# Altium schematic symbol library C_TANT_C(6032).SchLib: 1 symbol
Pins are listed as number, name and electrical type; pins without a type are passive.

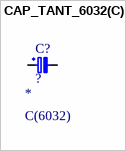
[diagram p0: symbol CAP_TANT_6032(C)]

## CAP_TANT_6032(C)
designator C?, comment ?  Package: C(6032)
CASE-C-6032 Tantalum Capacitors ROHS; Manufacturer: *; Manufacturer Part: *; Value: ?; LCSC: *; Voltage: *
footprint C6032(C)
pins: 1, 2